# Altium footprint library C2220.PcbLib: 1 footprints
Each footprint in its own frame and in the unit in brackets; x right, y up, seen from the top. Pads: shape width x height; smd on the part's side, far side on the other; paste and mask are expansions set on the pad; w line width, h text height; cw(c..) or ccw(c..) is an arc to the next point about the centre after c.
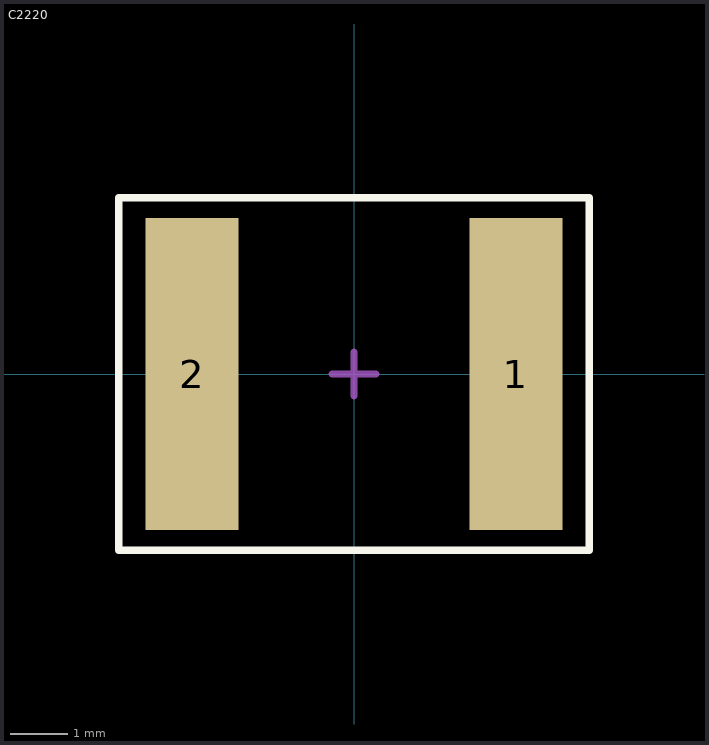
[diagram p0: the footprint, top view; thin cyan lines are the x and y axes]

## C2220 [mm]
pads (2):
  rect 1.6x5.4 smd mask+0.051: 1(2.8,0) 2(-2.8,0)
Top Overlay:
  lines w0.127: -4.064,-3.048 -4.064,3.048 4.064,3.048 4.064,-3.048 -4.064,-3.048
Top Designator:
  text ".Designator" at -7.618,-0.508 h1.52
Mechanical 15:
  lines w0.127: -0.381,0 0,0 ; 0,-0.381 0,0 ; 0,0.381 0,0 ; 0.381,0 0,0
3D body "C2220X562JFGACTU.step": height 2.7, standoff 0, extent -3.348,-2.733 3.302,2.667